# Altium integrated library NSC Audio.IntLib: 306 symbols (part 6 of 8)
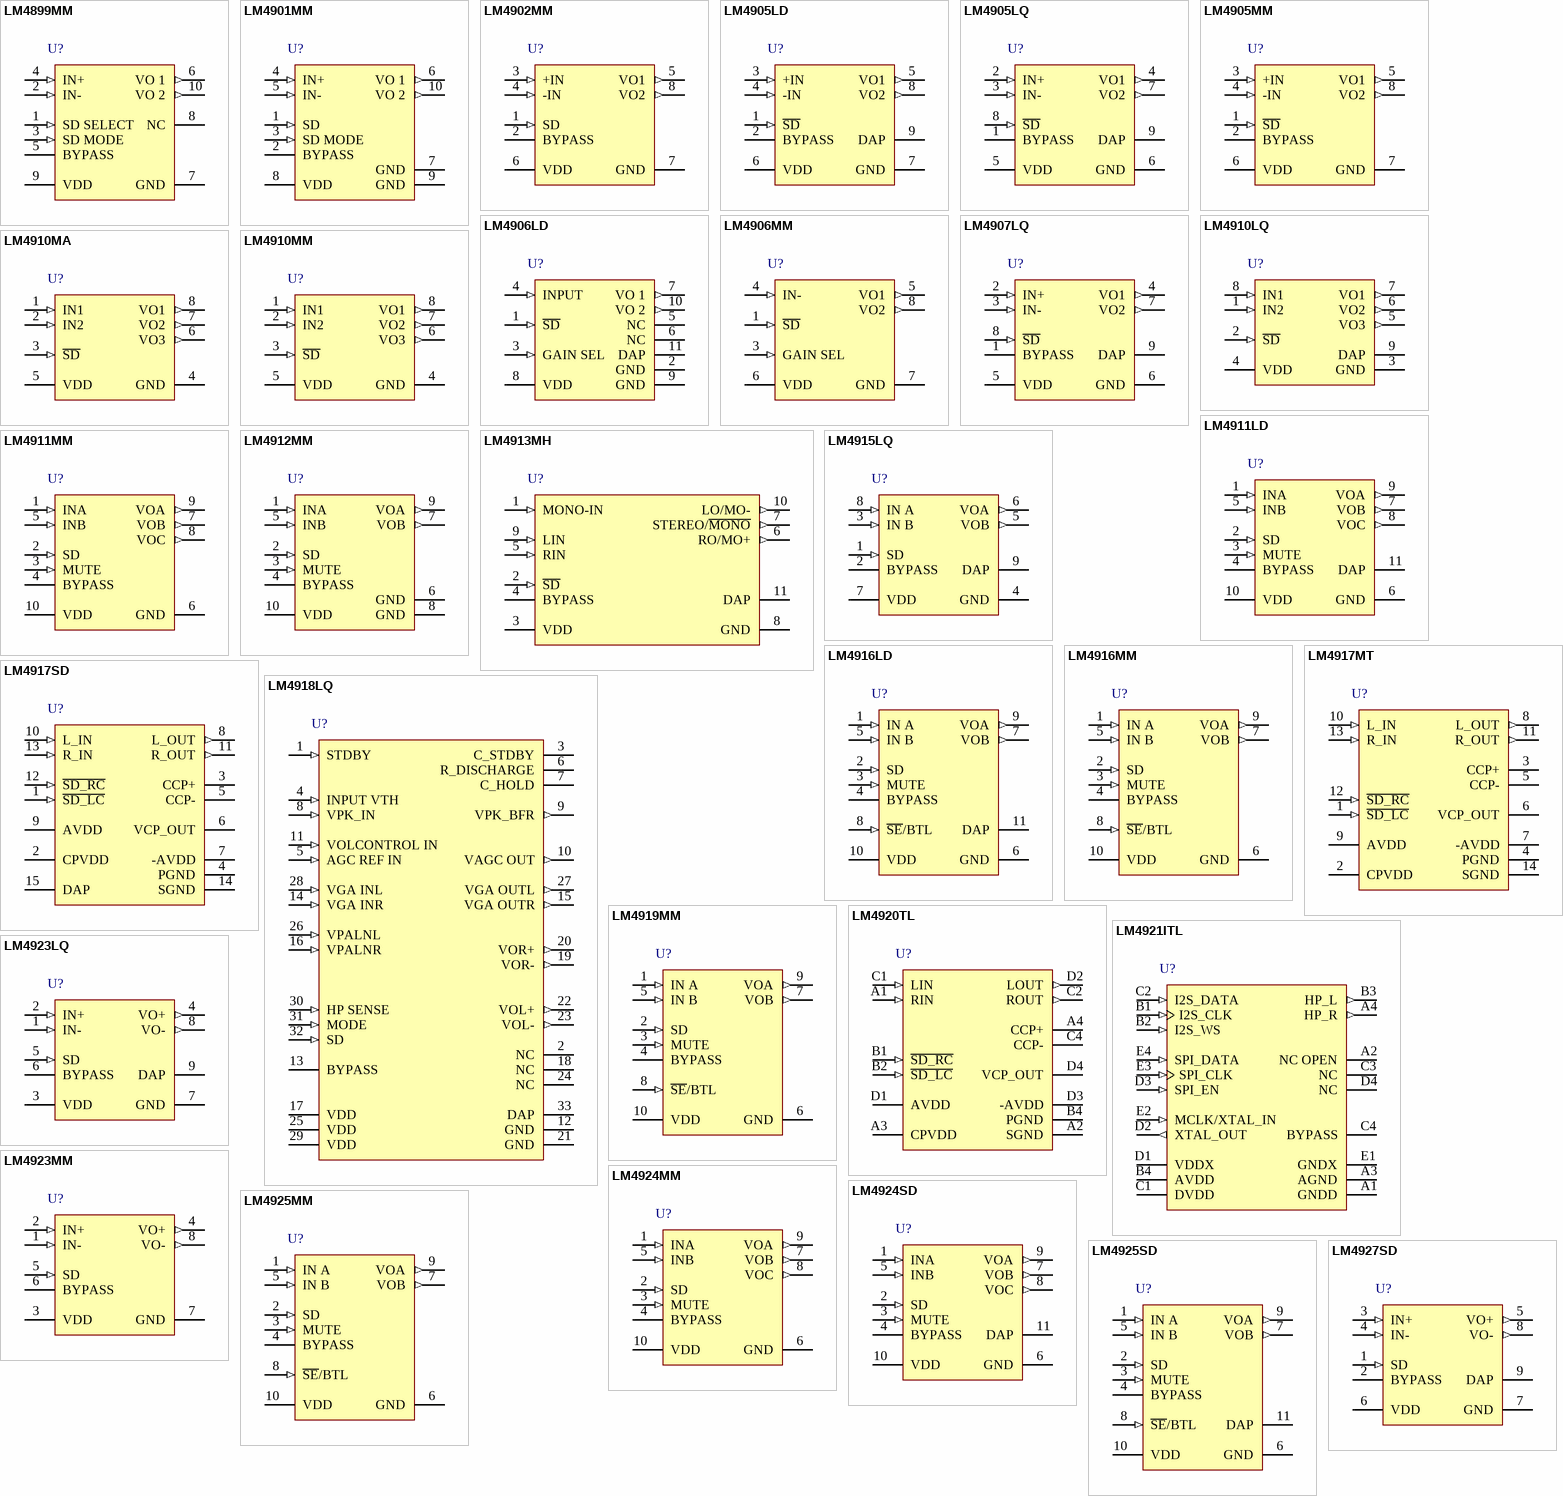
[diagram p17: symbols LM4899MM to LM4927SD]

## LM4924MM
designator U?
2 Cell Battery, 40mW Per Channel Output Capacitor-Less (OCL) Stereo Headphone Audio Amplifier; PartNumber: LM4924MM; Manufacturer: National Semiconductor; CompType: Audio IC; PackageTopMarking: ZXTT*GB7; PowerWise: N; Published: 4-Dec-2008; DatasheetVersion: Oct-2004; PackageVersion: revB, Jul-2003; PackageReference: MUB10A; Publisher: Altium Limited; PackageDescription: Mini-SO, Molded, .118 x .118 x .034in Body, 10 Lead, .0197in Pitch; RoHS: Y; PinCount: 10; DigiKeyPartNumber: LM4924MMCT-ND; Code_JEDEC: MO-187-BA; ComponentLink1Description: LM4924 Datasheet; ComponentLink1URL: http://www.national.com/ds/LM/LM4924.pdf; ComponentLink2Description: LM4924 Web Page; ComponentLink2URL: http://www.national.com/pf/LM/LM4924.html; ComponentLink3Description: MUB10A Package Page; ComponentLink3URL: http://www.national.com/packaging/folders/mub10a.html
footprint MUB10A_N (TSSOP, 10-Leads, Body 3x3mm, Pitch 0.5mm, IPC Medium Density)
footprint MUB10A_L (TSSOP, 10-Leads, Body 3x3mm, Pitch 0.5mm, IPC High Density)
footprint MUB10A_M (TSSOP, 10-Leads, Body 3x3mm, Pitch 0.5mm, IPC Low Density)
pins: 1 INA (in), 2 SD (in), 3 MUTE (in), 4 BYPASS, 5 INB (in), 6 GND (power), 7 VOB (out), 8 VOC (out), 9 VOA (out), 10 VDD (power)

## LM4924SD
designator U?
2 Cell Battery, 40mW Per Channel Output Capacitor-Less (OCL) Stereo Headphone Audio Amplifier; PartNumber: LM4924SD; Manufacturer: National Semiconductor; CompType: Audio IC; PackageTopMarking: ZXYTT*L4924; PowerWise: N; Published: 4-Dec-2008; DatasheetVersion: Oct-2004; PackageVersion: revA, Oct-2003; PackageReference: SDA10A; Publisher: Altium Limited; PackageDescription: LLP, Plastic, Dual, 3 x 3 x 0.8mm Body, 10 Lead, 0.5mm Pitch, No Pullback; RoHS: Y; PinCount: 10; DigiKeyPartNumber: LM4924SDCT-ND; ComponentLink1Description: LM4924 Datasheet; ComponentLink1URL: http://www.national.com/ds/LM/LM4924.pdf; ComponentLink2Description: LM4924 Web Page; ComponentLink2URL: http://www.national.com/pf/LM/LM4924.html; ComponentLink3Description: SDA10A Package Page; ComponentLink3URL: http://www.national.com/packaging/folders/sda10a.html
footprint SDA10A (SON, 10-Leads, Body 3x3 mm, Pitch 0.5mm, NSC Recommended)
pins: 1 INA (in), 2 SD (in), 3 MUTE (in), 4 BYPASS, 5 INB (in), 6 GND (power), 7 VOB (out), 8 VOC (out), 9 VOA (out), 10 VDD (power), 11 DAP (power)

## LM4925MM
designator U?
2 Cell, Single Ended Output, 40mW Stereo Headphone Audio Amplifier; PartNumber: LM4925MM; Manufacturer: National Semiconductor; CompType: Audio IC; PackageTopMarking: ZXTT*GB8; PowerWise: N; Published: 4-Dec-2008; DatasheetVersion: Feb-2005; PackageVersion: revB, Jul-2003; PackageReference: MUB10A; Publisher: Altium Limited; PackageDescription: Mini-SO, Molded, .118 x .118 x .034in Body, 10 Lead, .0197in Pitch; RoHS: Y; PinCount: 10; DigiKeyPartNumber: LM4925MMCT-ND; Code_JEDEC: MO-187-BA; ComponentLink1Description: LM4925 Datasheet; ComponentLink1URL: http://www.national.com/ds/LM/LM4925.pdf; ComponentLink2Description: LM4925 Web Page; ComponentLink2URL: http://www.national.com/pf/LM/LM4925.html; ComponentLink3Description: MUB10A Package Page; ComponentLink3URL: http://www.national.com/packaging/folders/mub10a.html
footprint MUB10A_N (TSSOP, 10-Leads, Body 3x3mm, Pitch 0.5mm, IPC Medium Density)
footprint MUB10A_L (TSSOP, 10-Leads, Body 3x3mm, Pitch 0.5mm, IPC High Density)
footprint MUB10A_M (TSSOP, 10-Leads, Body 3x3mm, Pitch 0.5mm, IPC Low Density)
pins: 1 IN A (in), 2 SD (in), 3 MUTE (in), 4 BYPASS, 5 IN B (in), 6 GND (power), 7 VOB (out), 8 ~{SE}/BTL (in), 9 VOA (out), 10 VDD (power)

## LM4925SD
designator U?
2 Cell, Single Ended Output, 40mW Stereo Headphone Audio Amplifier; PartNumber: LM4925SD; Manufacturer: National Semiconductor; CompType: Audio IC; PackageTopMarking: ZXYTT*L4925; PowerWise: N; Published: 4-Dec-2008; DatasheetVersion: Feb-2005; PackageVersion: revA, Oct-2003; PackageReference: SDA10A; Publisher: Altium Limited; PackageDescription: LLP, Plastic, Dual, 3 x 3 x 0.8mm Body, 10 Lead, 0.5mm Pitch, No Pullback; RoHS: Y; PinCount: 10; DigiKeyPartNumber: LM4925SDCT-ND; ComponentLink1Description: LM4925 Datasheet; ComponentLink1URL: http://www.national.com/ds/LM/LM4925.pdf; ComponentLink2Description: LM4925 Web Page; ComponentLink2URL: http://www.national.com/pf/LM/LM4925.html; ComponentLink3Description: SDA10A Package Page; ComponentLink3URL: http://www.national.com/packaging/folders/sda10a.html
footprint SDA10A (SON, 10-Leads, Body 3x3 mm, Pitch 0.5mm, NSC Recommended)
pins: 1 IN A (in), 2 SD (in), 3 MUTE (in), 4 BYPASS, 5 IN B (in), 6 GND (power), 7 VOB (out), 8 ~{SE}/BTL (in), 9 VOA (out), 10 VDD (power), 11 DAP (power)

## LM4927SD
designator U?
2.5 Watt Fully Differential Audio Power Amplifier With Shutdown; PartNumber: LM4927SD; Manufacturer: National Semiconductor; CompType: Audio IC; PackageTopMarking: ZXYTT*L4927; PowerWise: N; Published: 4-Dec-2008; DatasheetVersion: Apr-2006; PackageVersion: revA, Aug-2003; PackageReference: SDA08A; Publisher: Altium Limited; PackageDescription: LLP, Plastic, Dual, 3 x 3 x 0.8mm Body, 8 Lead, 0.5mm Pitch, No Pullback; RoHS: Y; PinCount: 8; DigiKeyPartNumber: LM4927SDCT-ND; ComponentLink1Description: LM4927 Datasheet; ComponentLink1URL: http://www.national.com/ds/LM/LM4927.pdf; ComponentLink2Description: LM4927 Web Page; ComponentLink2URL: http://www.national.com/pf/LM/LM4927.html; ComponentLink3Description: SDA08A Package Page; ComponentLink3URL: http://www.national.com/packaging/folders/sda08a.html
footprint SDA08A (SON, 8-Leads, Body 3x3mm, Pitch 0.5mm, NSC Recommended)
pins: 1 SD (in), 2 BYPASS, 3 IN+ (in), 4 IN- (in), 5 VO+ (out), 6 VDD (power), 7 GND (power), 8 VO- (out), 9 DAP (power)

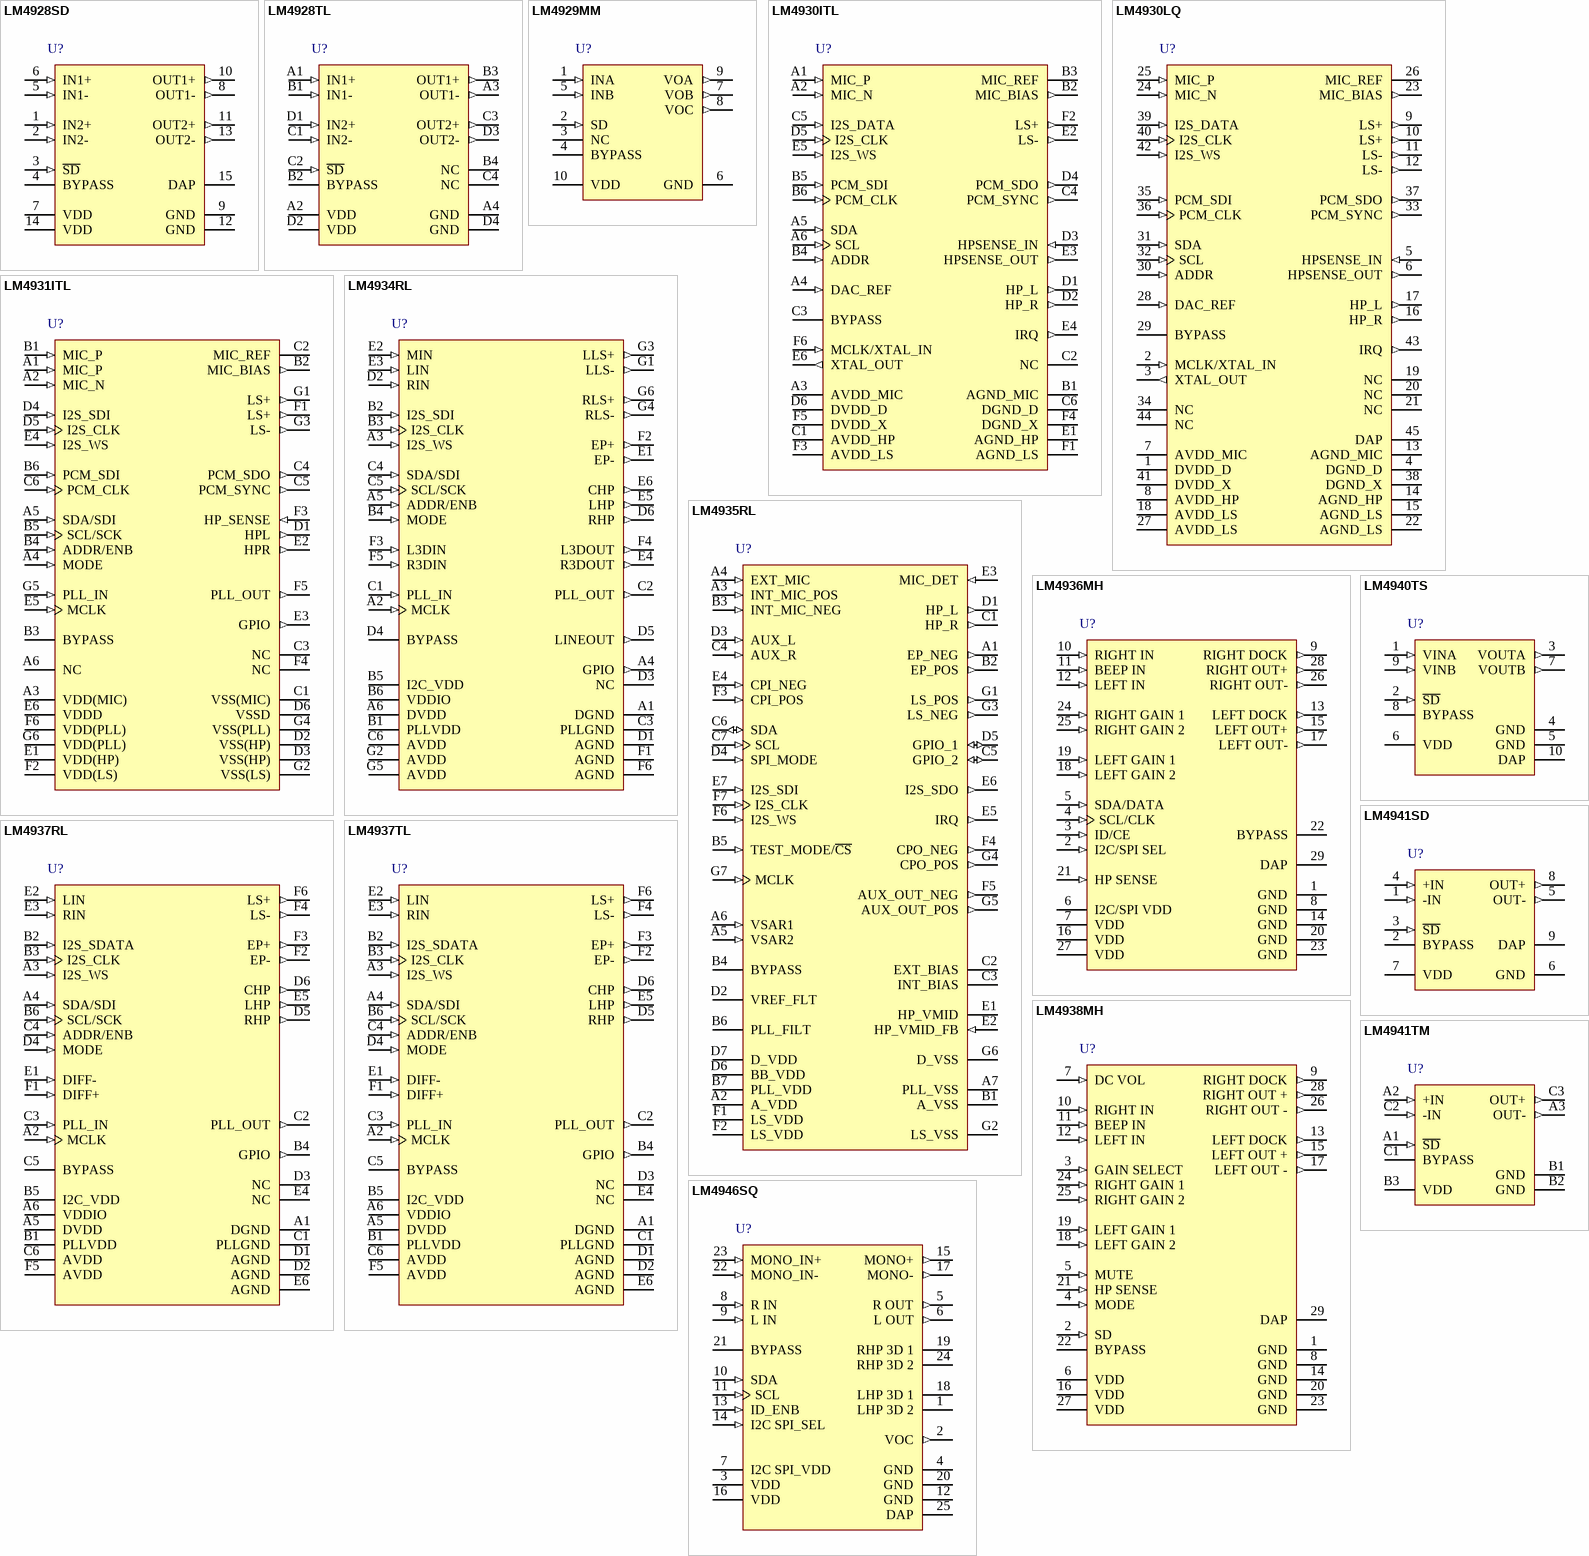
[diagram p8: symbols LM4928SD to LM4946SQ]

## LM4928SD
designator U?
1.2 Watt Stereo Fully Differential Audio Power Amplifier With RF Suppression and Shutdown Low; PartNumber: LM4928SD; Manufacturer: National Semiconductor; CompType: Audio IC; PackageTopMarking: ZXYTT*L4928; PowerWise: N; Published: 4-Dec-2008; DatasheetVersion: Feb-2006; PackageVersion: revA, Jun-2003; PackageReference: SDA14A; Publisher: Altium Limited; PackageDescription: LLP, Plastic, Dual, 4 x 3 x 0.8mm Body, 14 Lead, 0.5mm Pitch, No Pullback; RoHS: Y; PinCount: 14; DigiKeyPartNumber: LM4928SDCT-ND; ComponentLink1Description: LM4928 Datasheet; ComponentLink1URL: http://www.national.com/ds/LM/LM4928.pdf; ComponentLink2Description: LM4928 Web Page; ComponentLink2URL: http://www.national.com/pf/LM/LM4928.html; ComponentLink3Description: SDA14A Package Page; ComponentLink3URL: http://www.national.com/packaging/folders/sda14a.html
footprint SDA14A (SON, 14-Leads, Body 4x3mm, Pitch 0.5mm, NSC Recommended)
pins: 1 IN2+ (in), 2 IN2- (in), 3 ~{SD} (in), 4 BYPASS, 5 IN1- (in), 6 IN1+ (in), 7 VDD (power), 8 OUT1- (out), 9 GND (power), 10 OUT1+ (out), 11 OUT2+ (out), 12 GND (power), 13 OUT2- (out), 14 VDD (power), 15 DAP (power)

## LM4928TL
designator U?
1.2 Watt Stereo Fully Differential Audio Power Amplifier With RF Suppression and Shutdown Low; PartNumber: LM4928TL; Manufacturer: National Semiconductor; CompType: Audio IC; PackageTopMarking: XYTT*I GF9; PowerWise: N; Published: 4-Dec-2008; DatasheetVersion: Feb-2006; PackageVersion: revC, Jan-2004; PackageReference: TLA1611A; Publisher: Altium Limited; PackageDescription: Thin Micro SMD, 16 Bump (Large), 0.5mm Pitch; RoHS: Y; PinCount: 16; DigiKeyPartNumber: LM4928TLCT-ND; Code_JEDEC: MO-211-DF; ComponentLink1Description: LM4928 Datasheet; ComponentLink1URL: http://www.national.com/ds/LM/LM4928.pdf; ComponentLink2Description: LM4928 Web Page; ComponentLink2URL: http://www.national.com/pf/LM/LM4928.html; ComponentLink3Description: TLA1611A Package Page; ComponentLink3URL: http://www.national.com/packaging/folders/tla1611a.html
footprint TLA1611A (Micro SMD, 16-Leads, Body 1.97x1.97mm, Pitch 0.5mm, NSC Recommended)
pins: A1 IN1+ (in), A2 VDD (power), A3 OUT1- (out), A4 GND (power), B1 IN1- (in), B2 BYPASS, B3 OUT1+ (out), B4 NC, C1 IN2- (in), C2 ~{SD} (in), C3 OUT2+ (out), C4 NC, D1 IN2+ (in), D2 VDD (power), D3 OUT2- (out), D4 GND (power)

## LM4929MM
designator U?
LM4929 Stereo 40mW Low Noise Headphone Amplifier with OCL Output; PartNumber: LM4929MM; Manufacturer: National Semiconductor; CompType: Audio IC; PackageTopMarking: ZXTT*GB9; PowerWise: N; Published: 4-Dec-2008; DatasheetVersion: Dec-2004; PackageVersion: revB, Jul-2003; PackageReference: MUB10A; Publisher: Altium Limited; PackageDescription: Mini-SO, Molded, .118 x .118 x .034in Body, 10 Lead, .0197in Pitch; RoHS: Y; PinCount: 10; DigiKeyPartNumber: LM4929MMCT-ND; Code_JEDEC: MO-187-BA; ComponentLink1Description: LM4929 Datasheet; ComponentLink1URL: http://www.national.com/ds/LM/LM4929.pdf; ComponentLink2Description: LM4929 Web Page; ComponentLink2URL: http://www.national.com/pf/LM/LM4929.html; ComponentLink3Description: MUB10A Package Page; ComponentLink3URL: http://www.national.com/packaging/folders/mub10a.html
footprint MUB10A_N (TSSOP, 10-Leads, Body 3x3mm, Pitch 0.5mm, IPC Medium Density)
footprint MUB10A_L (TSSOP, 10-Leads, Body 3x3mm, Pitch 0.5mm, IPC High Density)
footprint MUB10A_M (TSSOP, 10-Leads, Body 3x3mm, Pitch 0.5mm, IPC Low Density)
pins: 1 INA (in), 2 SD (in), 3 NC, 4 BYPASS, 5 INB (in), 6 GND (power), 7 VOB (out), 8 VOC (out), 9 VOA (out), 10 VDD (power)

## LM4930ITL
designator U?
Audio Subsystem with Stereo Headphone & Mono Speaker Amplifiers; PartNumber: LM4930ITL; Manufacturer: National Semiconductor; CompType: Audio IC; PackageTopMarking: XVG*I B6; PowerWise: N; Published: 4-Dec-2008; DatasheetVersion: Sep-2004; PackageVersion: revC, Dec-2003; PackageReference: TLA36KRA; Publisher: Altium Limited; PackageDescription: Thin Micro SMD, 36 Bump (Large), 0.5mm Pitch; RoHS: Y; PinCount: 36; DigiKeyPartNumber: LM4930ITLCT-ND; Code_JEDEC: MO-211-DK; ComponentLink1Description: LM4930 Datasheet; ComponentLink1URL: http://www.national.com/ds/LM/LM4930.pdf; ComponentLink2Description: LM4930 Web Page; ComponentLink2URL: http://www.national.com/pf/LM/LM4930.html; ComponentLink3Description: TLA36KRA Package Page; ComponentLink3URL: http://www.national.com/packaging/folders/tla36kra.html
footprint TLA36KRA (Micro SMD, 36-Leads, Body 3.41x3.23mm, Pitch 0.5mm, NSC Recommended)
pins: A1 MIC_P (in), A2 MIC_N (in), A3 AVDD_MIC (power), A4 DAC_REF (in), A5 SDA (in), A6 SCL (in), B1 AGND_MIC (power), B2 MIC_BIAS (out), B3 MIC_REF, B4 ADDR (in), B5 PCM_SDI (in), B6 PCM_CLK (in), C1 AVDD_HP (power), C2 NC, C3 BYPASS, C4 PCM_SYNC (out), C5 I2S_DATA (in), C6 DGND_D (power), D1 HP_L (out), D2 HP_R (out), D3 HPSENSE_IN (in), D4 PCM_SDO (out), D5 I2S_CLK (in), D6 DVDD_D (power), E1 AGND_HP (power), E2 LS- (out), E3 HPSENSE_OUT (out), E4 IRQ (out), E5 I2S_WS (in), E6 XTAL_OUT (out), F1 AGND_LS (power), F2 LS+ (out), F3 AVDD_LS (power), F4 DGND_X (power), F5 DVDD_X (power), F6 MCLK/XTAL_IN (in)

## LM4930LQ
designator U?
Audio Subsystem with Stereo Headphone & Mono Speaker Amplifiers; PartNumber: LM4930LQ; Manufacturer: National Semiconductor; CompType: Audio IC; PackageTopMarking: NS*UZXYTT*L4930LQ; PowerWise: N; Published: 4-Dec-2008; DatasheetVersion: Sep-2004; PackageVersion: revB, Oct-2001; PackageReference: LQA44A; Publisher: Altium Limited; PackageDescription: LLP, Plastic, Quad, 7 x 7 x 0.75mm Body, 44 Lead, 0.5mm Pitch; RoHS: Y; PinCount: 44; DigiKeyPartNumber: LM4930LQCT-ND; ComponentLink1Description: LM4930 Datasheet; ComponentLink1URL: http://www.national.com/ds/LM/LM4930.pdf; ComponentLink2Description: LM4930 Web Page; ComponentLink2URL: http://www.national.com/pf/LM/LM4930.html; ComponentLink3Description: LQA44A Package Page; ComponentLink3URL: http://www.national.com/packaging/folders/lqa44a.html
footprint LQA44A (PQFN, 44-Leads, Body 7x7mm, Pitch 0.5mm, NSC Recommended)
pins: 1 DVDD_D (power), 2 MCLK/XTAL_IN (in), 3 XTAL_OUT (out), 4 DGND_D (power), 5 HPSENSE_IN (in), 6 HPSENSE_OUT (out), 7 AVDD_MIC (power), 8 AVDD_HP (power), 9 LS+ (out), 10 LS+ (out), 11 LS- (out), 12 LS- (out), 13 AGND_MIC (power), 14 AGND_HP (power), 15 AGND_LS (power), 16 HP_R (out), 17 HP_L (out), 18 AVDD_LS (power), 19 NC, 20 NC, 21 NC, 22 AGND_LS (power), 23 MIC_BIAS (out), 24 MIC_N (in), 25 MIC_P (in), 26 MIC_REF, 27 AVDD_LS (power), 28 DAC_REF (in), 29 BYPASS, 30 ADDR (in), 31 SDA (in), 32 SCL (in), 33 PCM_SYNC (out), 34 NC, 35 PCM_SDI (in), 36 PCM_CLK (in), 37 PCM_SDO (out), 38 DGND_X (power), 39 I2S_DATA (in), 40 I2S_CLK (in), 41 DVDD_X (power), 42 I2S_WS (in), 43 IRQ (out), 44 NC, 45 DAP (power)

## LM4931ITL
designator U?
Audio Subsystem with Mono High Efficiency Loudspeaker and Stereo Headphone Amplifiers; PartNumber: LM4931ITL; Manufacturer: National Semiconductor; CompType: Audio IC; PackageTopMarking: XYTT*I GC9; PowerWise: N; Published: 4-Dec-2008; DatasheetVersion: Jul-2006; PackageVersion: revC, Feb-2005; PackageReference: TLA42YVA; Publisher: Altium Limited; PackageDescription: Thin Micro SMD, 42 Bump (Large), 0.5mm Pitch; RoHS: Y; PinCount: 42; DigiKeyPartNumber: LM4931ITLCT-ND; ComponentLink1Description: LM4931 Datasheet; ComponentLink1URL: http://www.national.com/ds/LM/LM4931.pdf; ComponentLink2Description: LM4931 Web Page; ComponentLink2URL: http://www.national.com/pf/LM/LM4931.html; ComponentLink3Description: TLA42YVA Package Page; ComponentLink3URL: http://www.national.com/packaging/folders/tla42yva.html
footprint TLA42YVA (Micro SMD, 42-Leads, Body 3.93x3.51mm, Pitch 0.5mm, NSC Recommended)
pins: A1 MIC_P (in), A2 MIC_N (in), A3 VDD(MIC) (power), A4 MODE (in), A5 SDA/SDI (in), A6 NC, B1 MIC_P (in), B2 MIC_BIAS (out), B3 BYPASS, B4 ADDR/ENB (in), B5 SCL/SCK (in), B6 PCM_SDI (in), C1 VSS(MIC) (power), C2 MIC_REF, C3 NC, C4 PCM_SDO (out), C5 PCM_SYNC (out), C6 PCM_CLK (in), D1 HPL (out), D2 VSS(HP) (power), D3 VSS(HP) (power), D4 I2S_SDI (in), D5 I2S_CLK (in), D6 VSSD (power), E1 VDD(HP) (power), E2 HPR (out), E3 GPIO (out), E4 I2S_WS (in), E5 MCLK (in), E6 VDDD (power), F1 LS+ (out), F2 VDD(LS) (power), F3 HP_SENSE (in), F4 NC, F5 PLL_OUT (out), F6 VDD(PLL) (power), G1 LS+ (out), G2 VSS(LS) (power), G3 LS- (out), G4 VSS(PLL) (power), G5 PLL_IN (in), G6 VDD(PLL) (power)

## LM4934RL
designator U?
3D Audio Sub-System with Stereo Speaker, OCL/SE Stereo Headphone, Earpiece and Mono Line Level Outputs; PartNumber: LM4934RL; Manufacturer: National Semiconductor; CompType: Audio IC; PackageTopMarking: XYTT*I GG9; PowerWise: N; Published: 4-Dec-2008; DatasheetVersion: Feb-2006; PackageVersion: revB, Dec-2005; PackageReference: RLA42MPA; Publisher: Altium Limited; PackageDescription: Micro SMDxt, 42 Bump (Large), 0.5mm Pitch; RoHS: Y; PinCount: 42; DigiKeyPartNumber: LM4934RLCT-ND; ComponentLink1Description: LM4934 Datasheet; ComponentLink1URL: http://www.national.com/ds/LM/LM4934.pdf; ComponentLink2Description: LM4934 Web Page; ComponentLink2URL: http://www.national.com/pf/LM/LM4934.html; ComponentLink3Description: RLA42MPA Package Page; ComponentLink3URL: http://www.national.com/packaging/folders/rla42mpa.html
footprint RLA42MPA (Micro SMD, 42-Leads, Body 3.8x3.25mm, Pitch 0.5mm, NSC Recommended)
pins: A1 DGND (power), A2 MCLK (in), A3 I2S_WS (in), A4 GPIO (out), A5 ADDR/ENB (in), A6 DVDD (power), B1 PLLVDD (power), B2 I2S_SDI (in), B3 I2S_CLK (in), B4 MODE (in), B5 I2C_VDD (power), B6 VDDIO (power), C1 PLL_IN (in), C2 PLL_OUT (out), C3 PLLGND (power), C4 SDA/SDI (in), C5 SCL/SCK (in), C6 AVDD (power), D1 AGND (power), D2 RIN (in), D3 NC, D4 BYPASS, D5 LINEOUT (out), D6 RHP (out), E1 EP- (out), E2 MIN (in), E3 LIN (in), E4 R3DOUT (out), E5 LHP (out), E6 CHP (out), F1 AGND (power), F2 EP+ (out), F3 L3DIN (in), F4 L3DOUT (out), F5 R3DIN (in), F6 AGND (power), G1 LLS- (out), G2 AVDD (power), G3 LLS+ (out), G4 RLS- (out), G5 AVDD (power), G6 RLS+ (out)

## LM4935RL
designator U?
Audio Sub-System with Dual-Mode Stereo Headphone &amp; Mono High Efficiency Loudspeaker Amplifiers and Multi-Purpose ADC; PartNumber: LM4935RL; Manufacturer: National Semiconductor; CompType: Audio IC; PackageTopMarking: XYTT*I GG7; PowerWise: N; Published: 4-Dec-2008; DatasheetVersion: Jan-2006; PackageVersion: revB, Dec-2005; PackageReference: RLA49UUA; Publisher: Altium Limited; PackageDescription: Micro SMDxt, 49 Bump (Large), 0.5mm Pitch; RoHS: Y; PinCount: 49; DigiKeyPartNumber: LM4935RLCT-ND; ComponentLink1Description: LM4935 Datasheet; ComponentLink1URL: http://www.national.com/ds/LM/LM4935.pdf; ComponentLink2Description: LM4935 Web Page; ComponentLink2URL: http://www.national.com/pf/LM/LM4935.html; ComponentLink3Description: RLA49UUA Package Page; ComponentLink3URL: http://www.national.com/packaging/folders/rla49uua.html
footprint RLA49UUA (Micro SMD, 49-Leads, Body 3.93x3.93mm, Pitch 0.5mm, NSC Recommended)
pins: A1 EP_NEG (out), A2 A_VDD (power), A3 INT_MIC_POS (in), A4 EXT_MIC (in), A5 VSAR2 (in), A6 VSAR1 (in), A7 PLL_VSS (power), B1 A_VSS (power), B2 EP_POS (out), B3 INT_MIC_NEG (in), B4 BYPASS, B5 TEST_MODE/~{CS} (in), B6 PLL_FILT, B7 PLL_VDD (power), C1 HP_R (out), C2 EXT_BIAS (power), C3 INT_BIAS (power), C4 AUX_R (in), C5 GPIO_2 (io), C6 SDA (io), C7 SCL (in), D1 HP_L (out), D2 VREF_FLT, D3 AUX_L (in), D4 SPI_MODE (in), D5 GPIO_1 (io), D6 BB_VDD (power), D7 D_VDD (power), E1 HP_VMID (power), E2 HP_VMID_FB (in), E3 MIC_DET (in), E4 CPI_NEG (in), E5 IRQ (out), E6 I2S_SDO (out), E7 I2S_SDI (in), F1 LS_VDD (power), F2 LS_VDD (power), F3 CPI_POS (in), F4 CPO_NEG (out), F5 AUX_OUT_NEG (out), F6 I2S_WS (in), F7 I2S_CLK (in), G1 LS_POS (out), G2 LS_VSS (power), G3 LS_NEG (out), G4 CPO_POS (out), G5 AUX_OUT_POS (out), G6 D_VSS (power), G7 MCLK (in)

## LM4936MH
designator U?
Stereo 2W Audio Power Amplifiers with Volume Control and Selectable Control Interface (SPI or I2C); PartNumber: LM4936MH; Manufacturer: National Semiconductor; CompType: Audio IC; PackageTopMarking: NSUZXYTT*LM4936MH; PowerWise: N; Published: 4-Dec-2008; DatasheetVersion: Apr-2005; PackageVersion: revD, Oct-2003; PackageReference: MXA28A; Publisher: Altium Limited; PackageDescription: Molded TSSOP, Jedec, 9.7 x 4.4 x 0.9mm Body, 28 Lead, 0.65mm Pitch, Exposed Pad; RoHS: Y; PinCount: 28; DigiKeyPartNumber: LM4936MH-ND; Code_JEDEC: MO-153-AET; ComponentLink1Description: LM4936 Datasheet; ComponentLink1URL: http://www.national.com/ds/LM/LM4936.pdf; ComponentLink2Description: LM4936 Web Page; ComponentLink2URL: http://www.national.com/pf/LM/LM4936.html; ComponentLink3Description: MXA28A Package Page; ComponentLink3URL: http://www.national.com/packaging/folders/mxa28a.html
footprint MXA28A_N (TSOP, 28-Leads, Body 9.7x4.4mm, Pitch 0.65mm, Exposed Pad, IPC Medium Density)
footprint MXA28A_L (TSOP, 28-Leads, Body 9.7x4.4mm, Pitch 0.65mm, Exposed Pad, IPC High Density)
footprint MXA28A_M (TSOP, 28-Leads, Body 9.7x4.4mm, Pitch 0.65mm, Exposed Pad, IPC Low Density)
pins: 1 GND (power), 2 I2C/SPI SEL (in), 3 ID/CE (in), 4 SCL/CLK (in), 5 SDA/DATA (in), 6 I2C/SPI VDD (power), 7 VDD (power), 8 GND (power), 9 RIGHT DOCK (out), 10 RIGHT IN (in), 11 BEEP IN (in), 12 LEFT IN (in), 13 LEFT DOCK (out), 14 GND (power), 15 LEFT OUT+ (out), 16 VDD (power), 17 LEFT OUT- (out), 18 LEFT GAIN 2 (in), 19 LEFT GAIN 1 (in), 20 GND (power), 21 HP SENSE (in), 22 BYPASS, 23 GND (power), 24 RIGHT GAIN 1 (in), 25 RIGHT GAIN 2 (in), 26 RIGHT OUT- (out), 27 VDD (power), 28 RIGHT OUT+ (out), 29 DAP (power)

## LM4937RL
designator U?
Audio Sub-System with OCL Stereo Headphone Output and RF Suppression; PartNumber: LM4937RL; Manufacturer: National Semiconductor; CompType: Audio IC; PackageTopMarking: XYTT*I GJ3; PowerWise: N; Published: 4-Dec-2008; DatasheetVersion: Nov-2007; PackageVersion: revA, 2007; PackageReference: RLA36LVA; Publisher: Altium Limited; PackageDescription: Micro SMDxt, 36 Bump (Large), 0.5mm Pitch; RoHS: Y; PinCount: 36; ComponentLink1Description: LM4937 Datasheet; ComponentLink1URL: http://www.national.com/ds/LM/LM4937.pdf; ComponentLink2Description: LM4937 Web Page; ComponentLink2URL: http://www.national.com/pf/LM/LM4937.html; ComponentLink3Description: RLA36LVA Package Page; ComponentLink3URL: http://www.national.com/packaging/folders/rla36lva.html
footprint RLA36LVA (Micro SMD, 36-Leads, Body 3.51x3.26mm, Pitch 0.5mm, NSC Recommended)
pins: A1 DGND (power), A2 MCLK (in), A3 I2S_WS (in), A4 SDA/SDI (in), A5 DVDD (power), A6 VDDIO (power), B1 PLLVDD (power), B2 I2S_SDATA (in), B3 I2S_CLK (in), B4 GPIO (out), B5 I2C_VDD (power), B6 SCL/SCK (in), C1 PLLGND (power), C2 PLL_OUT (out), C3 PLL_IN (in), C4 ADDR/ENB (in), C5 BYPASS, C6 AVDD (power), D1 AGND (power), D2 AGND (power), D3 NC, D4 MODE (in), D5 RHP (out), D6 CHP (out), E1 DIFF- (in), E2 LIN (in), E3 RIN (in), E4 NC, E5 LHP (out), E6 AGND (power), F1 DIFF+ (in), F2 EP- (out), F3 EP+ (out), F4 LS- (out), F5 AVDD (power), F6 LS+ (out)

## LM4937TL
designator U?
Audio Sub-System with OCL Stereo Headphone Output and RF Suppression; PartNumber: LM4937TL; Manufacturer: National Semiconductor; CompType: Audio IC; PackageTopMarking: XYTT*I GI1; PowerWise: N; Published: 4-Dec-2008; DatasheetVersion: Nov-2007; PackageVersion: revC, Dec-2003; PackageReference: TLA36LVA; Publisher: Altium Limited; PackageDescription: Thin Micro SMD, 36 Bump (Large), 0.5mm Pitch; RoHS: Y; PinCount: 36; DigiKeyPartNumber: LM4937TLCT-ND; Code_JEDEC: MO-211-DK; ComponentLink1Description: LM4937 Datasheet; ComponentLink1URL: http://www.national.com/ds/LM/LM4937.pdf; ComponentLink2Description: LM4937 Web Page; ComponentLink2URL: http://www.national.com/pf/LM/LM4937.html; ComponentLink3Description: TLA36LVA Package Page; ComponentLink3URL: http://www.national.com/packaging/folders/tla36lva.html
footprint TLA36LVA (Micro SMD, 36-Leads, Body 3.51x3.26mm, Pitch 0.5mm, NSC Recommended)
pins: A1 DGND (power), A2 MCLK (in), A3 I2S_WS (in), A4 SDA/SDI (in), A5 DVDD (power), A6 VDDIO (power), B1 PLLVDD (power), B2 I2S_SDATA (in), B3 I2S_CLK (in), B4 GPIO (out), B5 I2C_VDD (power), B6 SCL/SCK (in), C1 PLLGND (power), C2 PLL_OUT (out), C3 PLL_IN (in), C4 ADDR/ENB (in), C5 BYPASS, C6 AVDD (power), D1 AGND (power), D2 AGND (power), D3 NC, D4 MODE (in), D5 RHP (out), D6 CHP (out), E1 DIFF- (in), E2 LIN (in), E3 RIN (in), E4 NC, E5 LHP (out), E6 AGND (power), F1 DIFF+ (in), F2 EP- (out), F3 EP+ (out), F4 LS- (out), F5 AVDD (power), F6 LS+ (out)

## LM4938MH
designator U?
Stereo 2W Audio Power Amplifiers with DC Volume Control and Selectable Gain; PartNumber: LM4938MH; Manufacturer: National Semiconductor; CompType: Audio IC; PackageTopMarking: NSUZXYTT*LM4938MH; PowerWise: N; Published: 4-Dec-2008; DatasheetVersion: Jul-2005; PackageVersion: revD, Oct-2003; PackageReference: MXA28A; Publisher: Altium Limited; PackageDescription: Molded TSSOP, Jedec, 9.7 x 4.4 x 0.9mm Body, 28 Lead, 0.65mm Pitch, Exposed Pad; RoHS: Y; PinCount: 28; DigiKeyPartNumber: LM4938MH-ND; Code_JEDEC: MO-153-AET; ComponentLink1Description: LM4938 Datasheet; ComponentLink1URL: http://www.national.com/ds/LM/LM4938.pdf; ComponentLink2Description: LM4938 Web Page; ComponentLink2URL: http://www.national.com/pf/LM/LM4938.html; ComponentLink3Description: MXA28A Package Page; ComponentLink3URL: http://www.national.com/packaging/folders/mxa28a.html
footprint MXA28A_N (TSOP, 28-Leads, Body 9.7x4.4mm, Pitch 0.65mm, Exposed Pad, IPC Medium Density)
footprint MXA28A_L (TSOP, 28-Leads, Body 9.7x4.4mm, Pitch 0.65mm, Exposed Pad, IPC High Density)
footprint MXA28A_M (TSOP, 28-Leads, Body 9.7x4.4mm, Pitch 0.65mm, Exposed Pad, IPC Low Density)
pins: 1 GND (power), 2 SD (in), 3 GAIN SELECT (in), 4 MODE (in), 5 MUTE (in), 6 VDD (power), 7 DC VOL (in), 8 GND (power), 9 RIGHT DOCK (out), 10 RIGHT IN (in), 11 BEEP IN (in), 12 LEFT IN (in), 13 LEFT DOCK (out), 14 GND (power), 15 LEFT OUT + (out), 16 VDD (power), 17 LEFT OUT - (out), 18 LEFT GAIN 2 (in), 19 LEFT GAIN 1 (in), 20 GND (power), 21 HP SENSE (in), 22 BYPASS, 23 GND (power), 24 RIGHT GAIN 1 (in), 25 RIGHT GAIN 2 (in), 26 RIGHT OUT - (out), 27 VDD (power), 28 RIGHT OUT + (out), 29 DAP (power)

## LM4940TS
designator U?
6W Stereo Audio Power Amplifier; PartNumber: LM4940TS; Manufacturer: National Semiconductor; CompType: Audio IC; PackageTopMarking: NSUZXYTTE#*L4940TS; PowerWise: N; Published: 4-Dec-2008; DatasheetVersion: Apr-2005; PackageVersion: revB, Dec-2004; PackageReference: TS9A; Publisher: Altium Limited; PackageDescription: TO-263, Molded, 9 Lead, Surface Mount; RoHS: Y; PinCount: 9; DigiKeyPartNumber: LM4940TS-ND; ComponentLink1Description: LM4940 Datasheet; ComponentLink1URL: http://www.national.com/ds/LM/LM4940.pdf; ComponentLink2Description: LM4940 Web Page; ComponentLink2URL: http://www.national.com/pf/LM/LM4940.html; ComponentLink3Description: TS9A Package Page; ComponentLink3URL: http://www.national.com/packaging/folders/ts9a.html
footprint TS9A_N (D2-PAK, 10-Leads, Body 8.7x10.2mm, Pitch 0.97mm, Lead Span 14.1mm, IPC Medium Density)
footprint TS9A_L (D2-PAK, 10-Leads, Body 8.7x10.2mm, Pitch 0.97mm, Lead Span 14.1mm, IPC High Density)
footprint TS9A_M (D2-PAK, 10-Leads, Body 8.7x10.2mm, Pitch 0.97mm, Lead Span 14.1mm, IPC Low Density)
pins: 1 VINA (in), 2 ~{SD} (in), 3 VOUTA (out), 4 GND (power), 5 GND (power), 6 VDD (power), 7 VOUTB (out), 8 BYPASS, 9 VINB (in), 10 DAP (power)

## LM4941SD
designator U?
1.25 Watt Fully Differential Audio Power Amplifier With RF Suppression and Shutdown; PartNumber: LM4941SD; Manufacturer: National Semiconductor; CompType: Audio IC; PackageTopMarking: XYTT*4941; PowerWise: N; Published: 4-Dec-2008; DatasheetVersion: Mar-2007; PackageVersion: revA, Jan-2004; PackageReference: SDA08C; Publisher: Altium Limited; PackageDescription: LLP, Plastic, Dual, 2.5 x 3.0 x 0.8mm Body, 8 Lead, 0.5mm Pitch, No Pullback; RoHS: Y; PinCount: 8; DigiKeyPartNumber: LM4941SDCT-ND; ComponentLink1Description: LM4941 Datasheet; ComponentLink1URL: http://www.national.com/ds/LM/LM4941.pdf; ComponentLink2Description: LM4941 Web Page; ComponentLink2URL: http://www.national.com/pf/LM/LM4941.html; ComponentLink3Description: SDA08C Package Page; ComponentLink3URL: http://www.national.com/packaging/folders/sda08c.html
footprint SDA08C (SON, 8-Leads, Body 2.5x3mm, Pitch 0.5mm, NSC Recommended)
pins: 1 -IN (in), 2 BYPASS, 3 ~{SD} (in), 4 +IN (in), 5 OUT- (out), 6 GND (power), 7 VDD (power), 8 OUT+ (out), 9 DAP (power)

## LM4941TM
designator U?
1.25 Watt Fully Differential Audio Power Amplifier With RF Suppression and Shutdown; PartNumber: LM4941TM; Manufacturer: National Semiconductor; CompType: Audio IC; PackageTopMarking: XVG*I H6; PowerWise: Y; Published: 4-Dec-2008; DatasheetVersion: Mar-2007; PackageVersion: revA, May-2005; PackageReference: TMD09AAA; Publisher: Altium Limited; PackageDescription: Thin Micro SMD, 9 Bump, 0.4mm Pitch; RoHS: Y; PinCount: 9; DigiKeyPartNumber: LM4941TMCT-ND; ComponentLink1Description: LM4941 Datasheet; ComponentLink1URL: http://www.national.com/ds/LM/LM4941.pdf; ComponentLink2Description: LM4941 Web Page; ComponentLink2URL: http://www.national.com/pf/LM/LM4941.html; ComponentLink3Description: TMD09AAA Package Page; ComponentLink3URL: http://www.national.com/packaging/folders/tmd09aaa.html
footprint TMD09AAA (Micro SMD, 9-Leads, Body 1.22x1.22mm, Pitch 0.4mm, NSC Recommended)
pins: A1 ~{SD} (in), A2 +IN (in), A3 OUT- (out), B1 GND (power), B2 GND (power), B3 VDD (power), C1 BYPASS, C2 -IN (in), C3 OUT+ (out)

## LM4946SQ
designator U?
Output Capacitor-Less Audio Subsystem with Programmable National 3D; PartNumber: LM4946SQ; Manufacturer: National Semiconductor; CompType: Audio IC; PackageTopMarking: NS*UZXYTT*L4946SQ; PowerWise: N; Published: 4-Dec-2008; DatasheetVersion: Aug-2007; PackageVersion: revB, Aug-2003; PackageReference: SQA24A; Publisher: Altium Limited; PackageDescription: LLP, Plastic, Quad, 4 x 4 x 0.8mm Body, 24 Lead, 0.5mm Pitch, No Pullback; RoHS: Y; PinCount: 24; DigiKeyPartNumber: LM4946SQCT-ND; Code_JEDEC: MO-220-WGGD-6; ComponentLink1Description: LM4946 Datasheet; ComponentLink1URL: http://www.national.com/ds/LM/LM4946.pdf; ComponentLink2Description: LM4946 Web Page; ComponentLink2URL: http://www.national.com/pf/LM/LM4946.html; ComponentLink3Description: SQA24A Package Page; ComponentLink3URL: http://www.national.com/packaging/folders/sqa24a.html
footprint SQA24A (QFN, 24-Leads, Body 4x4mm, Pitch 0.5mm, NSC Recommended)
pins: 1 LHP 3D 2, 2 VOC (out), 3 VDD (power), 4 GND (power), 5 R OUT (out), 6 L OUT (out), 7 I2C SPI_VDD (power), 8 R IN (in), 9 L IN (in), 10 SDA (in), 11 SCL (in), 12 GND (power), 13 ID_ENB (in), 14 I2C SPI_SEL (in), 15 MONO+ (out), 16 VDD (power), 17 MONO- (out), 18 LHP 3D 1, 19 RHP 3D 1, 20 GND (power), 21 BYPASS, 22 MONO_IN- (in), 23 MONO_IN+ (in), 24 RHP 3D 2, 25 DAP (power)

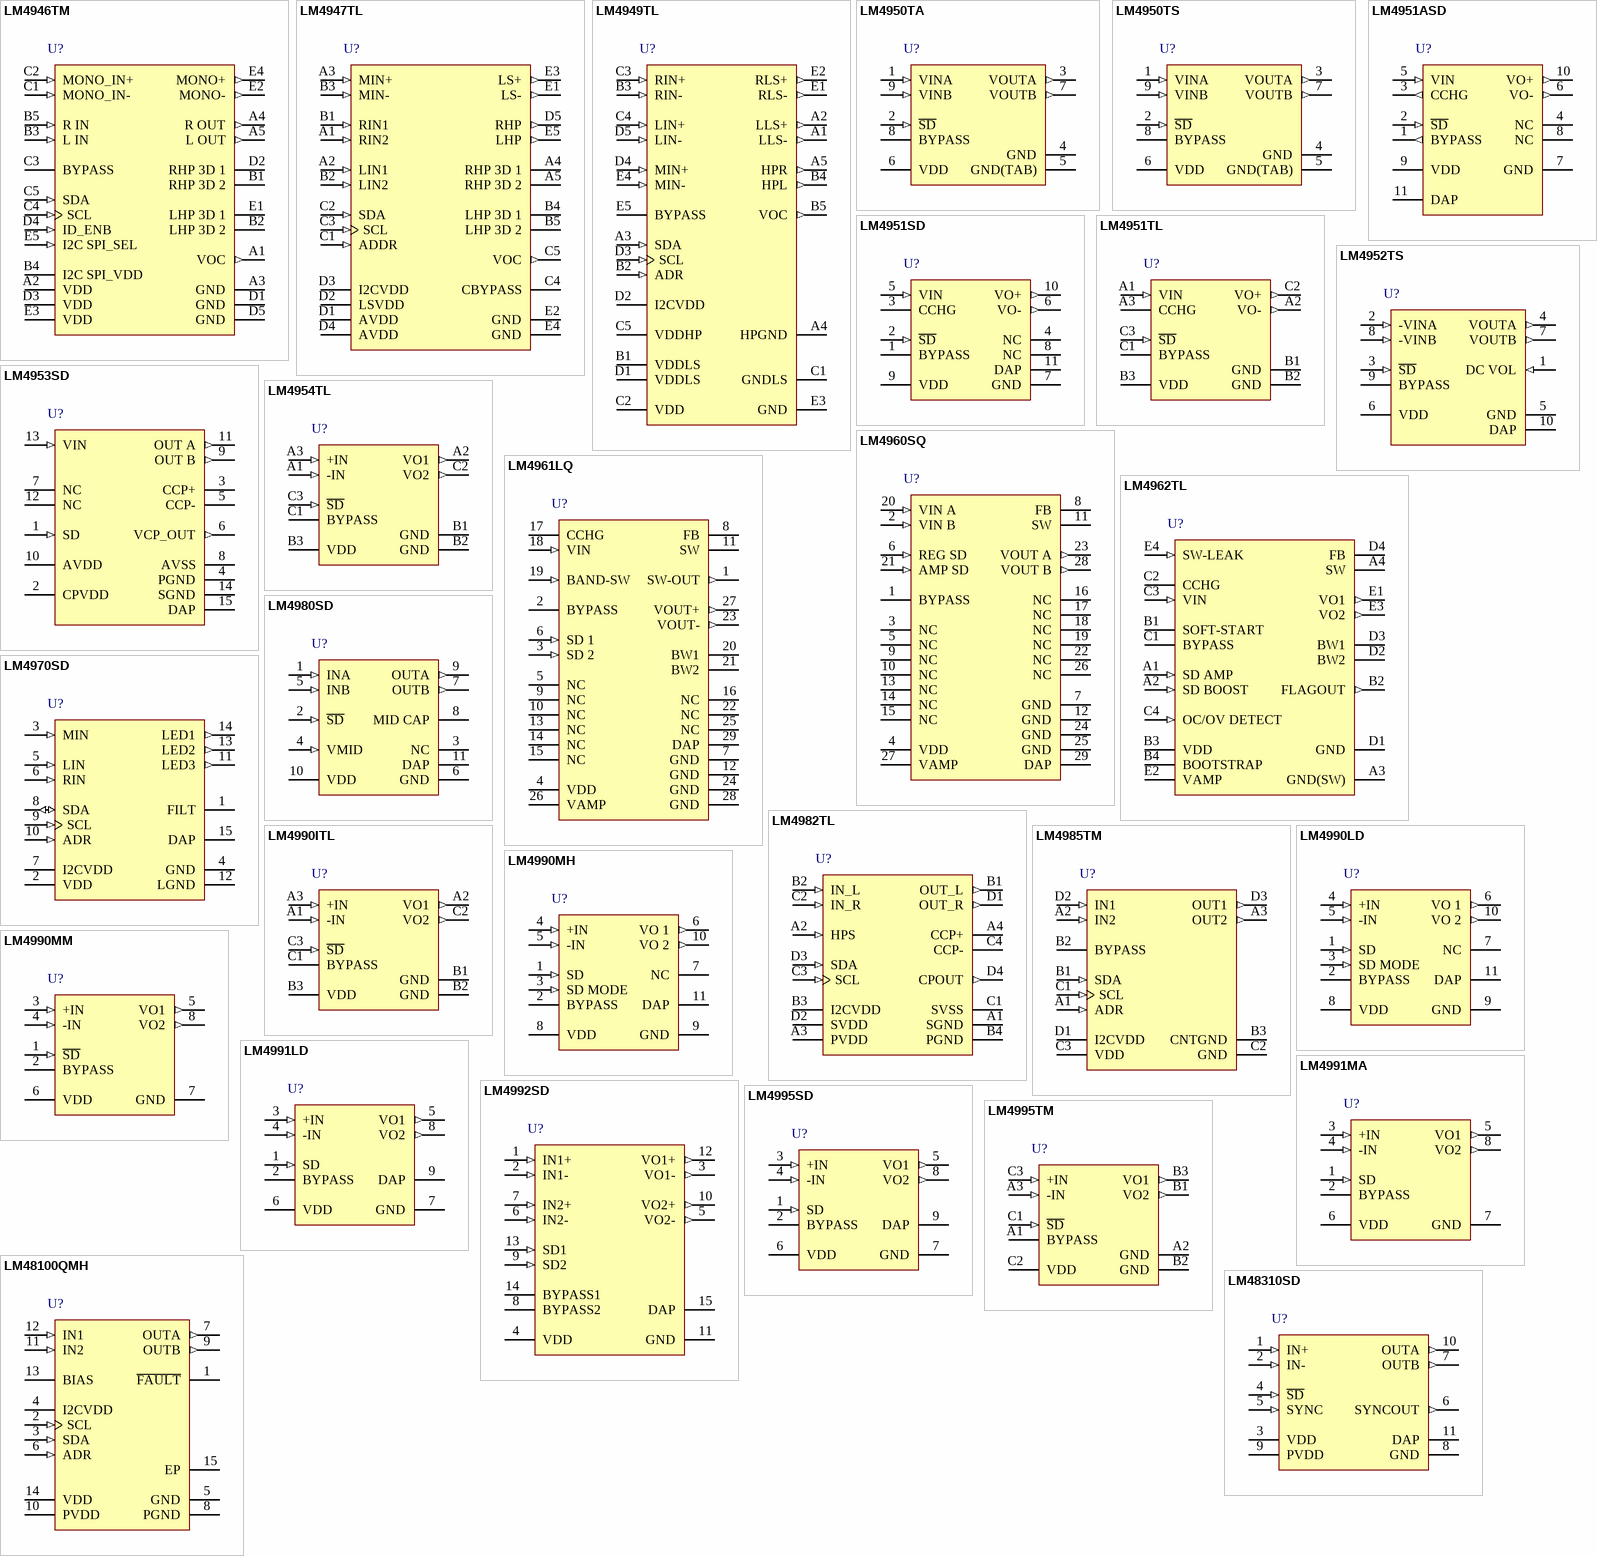
[diagram p9: symbols LM4946TM to LM48310SD]

## LM4946TM
designator U?
Output Capacitor-Less Audio Subsystem with Programmable National 3D; PartNumber: LM4946TM; Manufacturer: National Semiconductor; CompType: Audio IC; PackageTopMarking: XYTT*I GI9; PowerWise: N; Published: 4-Dec-2008; DatasheetVersion: Aug-2007; PackageVersion: revC, 2007; PackageReference: TMD25ABA; Publisher: Altium Limited; PackageDescription: Thin Micro SMD, 25 Bump, 0.4mm Pitch; RoHS: Y; PinCount: 25; DigiKeyPartNumber: LM4946TMCT-ND; ComponentLink1Description: LM4946 Datasheet; ComponentLink1URL: http://www.national.com/ds/LM/LM4946.pdf; ComponentLink2Description: LM4946 Web Page; ComponentLink2URL: http://www.national.com/pf/LM/LM4946.html; ComponentLink3Description: TMD25ABA Package Page; ComponentLink3URL: http://www.national.com/packaging/folders/tmd25aba.html
footprint TMD25ABA (Micro SMD, 25-Leads, Body 2.05x2.02mm, Pitch 0.4mm, NSC Recommended)
pins: A1 VOC (out), A2 VDD (power), A3 GND (power), A4 R OUT (out), A5 L OUT (out), B1 RHP 3D 2, B2 LHP 3D 2, B3 L IN (in), B4 I2C SPI_VDD (power), B5 R IN (in), C1 MONO_IN- (in), C2 MONO_IN+ (in), C3 BYPASS, C4 SCL (in), C5 SDA (in), D1 GND (power), D2 RHP 3D 1, D3 VDD (power), D4 ID_ENB (in), D5 GND (power), E1 LHP 3D 1, E2 MONO- (out), E3 VDD (power), E4 MONO+ (out), E5 I2C SPI_SEL (in)

## LM4947TL
designator U?
Mono Class D and Stereo Audio Sub-System with OCL Headphone Amplifier and National 3D; PartNumber: LM4947TL; Manufacturer: National Semiconductor; CompType: Audio IC; PackageTopMarking: XYTT*I GH1; PowerWise: N; Published: 4-Dec-2008; DatasheetVersion: Nov-2007; PackageVersion: revD, Dec-2003; PackageReference: TLA25BBA; Publisher: Altium Limited; PackageDescription: Thin Micro SMD, 25 Bump (Large), 0.5mm Pitch; RoHS: Y; PinCount: 25; DigiKeyPartNumber: LM4947TLCT-ND; Code_JEDEC: MO-211-DH; ComponentLink1Description: LM4947 Datasheet; ComponentLink1URL: http://www.national.com/ds/LM/LM4947.pdf; ComponentLink2Description: LM4947 Web Page; ComponentLink2URL: http://www.national.com/pf/LM/LM4947.html; ComponentLink3Description: TLA25BBA Package Page; ComponentLink3URL: http://www.national.com/packaging/folders/tla25bba.html
footprint TLA25BBA (Micro SMD, 25-Leads, Body 2.52x2.52mm, Pitch 0.5mm, NSC Recommended)
pins: A1 RIN2 (in), A2 LIN1 (in), A3 MIN+ (in), A4 RHP 3D 1, A5 RHP 3D 2, B1 RIN1 (in), B2 LIN2 (in), B3 MIN- (in), B4 LHP 3D 1, B5 LHP 3D 2, C1 ADDR (in), C2 SDA (in), C3 SCL (in), C4 CBYPASS, C5 VOC (out), D1 AVDD (power), D2 LSVDD (power), D3 I2CVDD (power), D4 AVDD (power), D5 RHP (out), E1 LS- (out), E2 GND (power), E3 LS+ (out), E4 GND (power), E5 LHP (out)

## LM4949TL
designator U?
Stereo Class D Audio Subsystem with OCL Headphone Amplifier; PartNumber: LM4949TL; Manufacturer: National Semiconductor; CompType: Audio IC; PackageTopMarking: XYTT*I GH3; PowerWise: N; Published: 4-Dec-2008; DatasheetVersion: Jan-2007; PackageVersion: revD, Oct-2003; PackageReference: TLA25JJA; Publisher: Altium Limited; PackageDescription: 25-Ball Thin Micro SMD, 2.69 x 2.69 x 0.6mm Body, 0.5 mm Pitch; RoHS: Y; PinCount: 25; DigiKeyPartNumber: LM4949TLCT-ND; Code_JEDEC: MO-211-DH; ComponentLink1Description: LM4949 Datasheet; ComponentLink1URL: http://www.national.com/ds/LM/LM4949.pdf; ComponentLink2Description: LM4949 Web Page; ComponentLink2URL: http://www.national.com/pf/LM/LM4949.html; ComponentLink3Description: TLA25JJA Package Page; ComponentLink3URL: http://www.national.com/packaging/folders/tla25jja.html
footprint TLA25JJA (BGA, 25-Leads, Body 2.69x2.69mm, Pitch 0.5mm)
pins: A1 LLS- (out), A2 LLS+ (out), A3 SDA (in), A4 HPGND (power), A5 HPR (out), B1 VDDLS (power), B2 ADR (in), B3 RIN- (in), B4 HPL (out), B5 VOC (out), C1 GNDLS (power), C2 VDD (power), C3 RIN+ (in), C4 LIN+ (in), C5 VDDHP (power), D1 VDDLS (power), D2 I2CVDD (power), D3 SCL (in), D4 MIN+ (in), D5 LIN- (in), E1 RLS- (out), E2 RLS+ (out), E3 GND (power), E4 MIN- (in), E5 BYPASS

## LM4950TA
designator U?
7.5W Mono-BTL or 3.1W Stereo Audio Power Amplifier; PartNumber: LM4950TA; Manufacturer: National Semiconductor; CompType: Audio IC; PackageTopMarking: NSUZXYTTE#*L4950TA; PowerWise: N; Published: 4-Dec-2008; DatasheetVersion: Aug-2004; PackageVersion: revC, Jul-1999; PackageReference: TA09A; Publisher: Altium Limited; PackageDescription: TO-220, Molded, 9 Lead, Staggered; RoHS: Y; PinCount: 9; DigiKeyPartNumber: LM4950TA-ND; ComponentLink1Description: LM4950 Datasheet; ComponentLink1URL: http://www.national.com/ds/LM/LM4950.pdf; ComponentLink2Description: LM4950 Web Page; ComponentLink2URL: http://www.national.com/pf/LM/LM4950.html; ComponentLink3Description: TA09A Package Page; ComponentLink3URL: http://www.national.com/packaging/folders/ta09a.html
footprint TA09A (TO, Thru-Hole, Vertical, Heatsink Mounted; 9 Bent Staggered Leads; Pitch 0.97 mm)
pins: 1 VINA (in), 2 ~{SD} (in), 3 VOUTA (out), 4 GND (power), 5 GND(TAB) (power), 6 VDD (power), 7 VOUTB (out), 8 BYPASS, 9 VINB (in)

## LM4950TS
designator U?
7.5W Mono-BTL or 3.1W Stereo Audio Power Amplifier; PartNumber: LM4950TS; Manufacturer: National Semiconductor; CompType: Audio IC; PackageTopMarking: NSUZXYTTE#*L4950TS; PowerWise: N; Published: 4-Dec-2008; DatasheetVersion: Aug-2004; PackageVersion: revB, Dec-2004; PackageReference: TS9A; Publisher: Altium Limited; PackageDescription: TO-263, Molded, 9 Lead, Surface Mount; RoHS: O; PinCount: 9; DigiKeyPartNumber: LM4950TS-ND; ComponentLink1Description: LM4950 Datasheet; ComponentLink1URL: http://www.national.com/ds/LM/LM4950.pdf; ComponentLink2Description: LM4950 Web Page; ComponentLink2URL: http://www.national.com/pf/LM/LM4950.html; ComponentLink3Description: TS9A Package Page; ComponentLink3URL: http://www.national.com/packaging/folders/ts9a.html
footprint TS9A_N (D2-PAK, 10-Leads, Body 8.7x10.2mm, Pitch 0.97mm, Lead Span 14.1mm, IPC Medium Density)
footprint TS9A_L (D2-PAK, 10-Leads, Body 8.7x10.2mm, Pitch 0.97mm, Lead Span 14.1mm, IPC High Density)
footprint TS9A_M (D2-PAK, 10-Leads, Body 8.7x10.2mm, Pitch 0.97mm, Lead Span 14.1mm, IPC Low Density)
pins: 1 VINA (in), 2 ~{SD} (in), 3 VOUTA (out), 4 GND (power), 5 GND(TAB) (power), 6 VDD (power), 7 VOUTB (out), 8 BYPASS, 9 VINB (in)

## LM4951ASD
designator U?
Wide Voltage Range 1.8 Watt Audio Power Amplifier With Short Circuit Protection; PartNumber: LM4951ASD; Manufacturer: National Semiconductor; CompType: Audio IC; PackageTopMarking: NS*UZXYTT*4951ASD; PowerWise: N; Published: 4-Dec-2008; DatasheetVersion: Sep-2008; PackageVersion: revA, May-2003; PackageReference: SDC10A; Publisher: Altium Limited; PackageDescription: LLP, Plastic, Dual, 4 x 4 x 0.8mm Body, 10 Lead, 0.8mm Pitch, No Pullback; RoHS: Y; PinCount: 10; ComponentLink1Description: LM4951A Datasheet; ComponentLink1URL: http://www.national.com/ds/LM/LM4951A.pdf; ComponentLink2Description: LM4951A Web Page; ComponentLink2URL: http://www.national.com/pf/LM/LM4951A.html; ComponentLink3Description: SDC10A Package Page; ComponentLink3URL: http://www.national.com/packaging/folders/sdc10a.html
footprint SDC10A (SON, 10-Leads, Body 4x4 mm, Pitch 0.8mm, NSC Recommended)
pins: 1 BYPASS (out), 2 ~{SD} (in), 3 CCHG (out), 4 NC, 5 VIN (in), 6 VO- (out), 7 GND (power), 8 NC, 9 VDD (power), 10 VO+ (out), 11 DAP

## LM4951SD
designator U?
Wide Voltage Range 1.8 Watt Audio Power Amplifier; PartNumber: LM4951SD; Manufacturer: National Semiconductor; CompType: Audio IC; PackageTopMarking: NS*UZXYTT*L4951SD; PowerWise: N; Published: 4-Dec-2008; DatasheetVersion: May-2007; PackageVersion: revA, May-2003; PackageReference: SDC10A; Publisher: Altium Limited; PackageDescription: LLP, Plastic, Dual, 4 x 4 x 0.8mm Body, 10 Lead, 0.8mm Pitch, No Pullback; RoHS: Y; PinCount: 10; DigiKeyPartNumber: LM4951SDCT-ND; ComponentLink1Description: LM4951 Datasheet; ComponentLink1URL: http://www.national.com/ds/LM/LM4951.pdf; ComponentLink2Description: LM4951 Web Page; ComponentLink2URL: http://www.national.com/pf/LM/LM4951.html; ComponentLink3Description: SDC10A Package Page; ComponentLink3URL: http://www.national.com/packaging/folders/sdc10a.html
footprint SDC10A (SON, 10-Leads, Body 4x4 mm, Pitch 0.8mm, NSC Recommended)
pins: 1 BYPASS, 2 ~{SD} (in), 3 CCHG, 4 NC, 5 VIN (in), 6 VO- (out), 7 GND (power), 8 NC, 9 VDD (power), 10 VO+ (out), 11 DAP (power)

## LM4951TL
designator U?
Wide Voltage Range 1.8 Watt Audio Power Amplifier; PartNumber: LM4951TL; Manufacturer: National Semiconductor; CompType: Audio IC; PackageTopMarking: XVG*I F8; PowerWise: N; Published: 4-Dec-2008; DatasheetVersion: May-2007; PackageVersion: revC, Jan-2004; PackageReference: TLA09ZZA; Publisher: Altium Limited; PackageDescription: Thin Micro SMD, 9 Bump (Large), 0.5mm Pitch; RoHS: Y; PinCount: 9; DigiKeyPartNumber: LM4951TL-ND; Code_JEDEC: MO-211-DD; ComponentLink1Description: LM4951 Datasheet; ComponentLink1URL: http://www.national.com/ds/LM/LM4951.pdf; ComponentLink2Description: LM4951 Web Page; ComponentLink2URL: http://www.national.com/pf/LM/LM4951.html; ComponentLink3Description: TLA09ZZA Package Page; ComponentLink3URL: http://www.national.com/packaging/folders/tla09zza.html
footprint TLA09ZZA (Micro SMD, 9-Leads, Body 1.47x1.47mm, Pitch 0.5mm, NSC Recommended)
pins: A1 VIN (in), A2 VO- (out), A3 CCHG, B1 GND (power), B2 GND (power), B3 VDD (power), C1 BYPASS, C2 VO+ (out), C3 ~{SD} (in)

## LM4952TS
designator U?
3.1W Stereo-SE Audio Power Amplifier with DC Volume Control; PartNumber: LM4952TS; Manufacturer: National Semiconductor; CompType: Audio IC; PackageTopMarking: NSUZXYTTE#*LM4952TS; PowerWise: N; Published: 4-Dec-2008; DatasheetVersion: Aug-2004; PackageVersion: revB, Dec-2004; PackageReference: TS9A; Publisher: Altium Limited; PackageDescription: TO-263, Molded, 9 Lead, Surface Mount; RoHS: Y; PinCount: 9; DigiKeyPartNumber: LM4952TS-ND; ComponentLink1Description: LM4952 Datasheet; ComponentLink1URL: http://www.national.com/ds/LM/LM4952.pdf; ComponentLink2Description: LM4952 Web Page; ComponentLink2URL: http://www.national.com/pf/LM/LM4952.html; ComponentLink3Description: TS9A Package Page; ComponentLink3URL: http://www.national.com/packaging/folders/ts9a.html
footprint TS9A_N (D2-PAK, 10-Leads, Body 8.7x10.2mm, Pitch 0.97mm, Lead Span 14.1mm, IPC Medium Density)
footprint TS9A_L (D2-PAK, 10-Leads, Body 8.7x10.2mm, Pitch 0.97mm, Lead Span 14.1mm, IPC High Density)
footprint TS9A_M (D2-PAK, 10-Leads, Body 8.7x10.2mm, Pitch 0.97mm, Lead Span 14.1mm, IPC Low Density)
pins: 1 DC VOL (in), 2 -VINA (in), 3 ~{SD} (in), 4 VOUTA (out), 5 GND (power), 6 VDD (power), 7 VOUTB (out), 8 -VINB (in), 9 BYPASS, 10 DAP (power)

## LM4953SD
designator U?
LM4953 Ground-Referenced, Ultra Low Noise, Ceramic Speaker Driver; PartNumber: LM4953SD; Manufacturer: National Semiconductor; CompType: Audio IC; PackageTopMarking: ZXYTT*L4953; PowerWise: N; Published: 4-Dec-2008; DatasheetVersion: Feb-2006; PackageVersion: revA, Jun-2003; PackageReference: SDA14A; Publisher: Altium Limited; PackageDescription: LLP, Plastic, Dual, 4 x 3 x 0.8mm Body, 14 Lead, 0.5mm Pitch, No Pullback; RoHS: Y; PinCount: 14; DigiKeyPartNumber: LM4953SD-ND; ComponentLink1Description: LM4953 Datasheet; ComponentLink1URL: http://www.national.com/ds/LM/LM4953.pdf; ComponentLink2Description: LM4953 Web Page; ComponentLink2URL: http://www.national.com/pf/LM/LM4953.html; ComponentLink3Description: SDA14A Package Page; ComponentLink3URL: http://www.national.com/packaging/folders/sda14a.html
footprint SDA14A (SON, 14-Leads, Body 4x3mm, Pitch 0.5mm, NSC Recommended)
pins: 1 SD (in), 2 CPVDD (power), 3 CCP+, 4 PGND (power), 5 CCP-, 6 VCP_OUT (out), 7 NC, 8 AVSS (power), 9 OUT B (out), 10 AVDD (power), 11 OUT A (out), 12 NC, 13 VIN (in), 14 SGND (power), 15 DAP (power)

## LM4954TL
designator U?
High Voltage 3 Watt Audio Power Amplifier; PartNumber: LM4954TL; Manufacturer: National Semiconductor; CompType: Audio IC; PackageTopMarking: XVG*I F2; PowerWise: N; Published: 4-Dec-2008; DatasheetVersion: Jun-2005; PackageVersion: revC, Jan-2004; PackageReference: TLA0911A; Publisher: Altium Limited; PackageDescription: Thin Micro SMD, 9 Bump (Large), 0.5mm Pitch; RoHS: Y; PinCount: 9; DigiKeyPartNumber: LM4954TLCT-ND; Code_JEDEC: MO-211-DD; ComponentLink1Description: LM4954 Datasheet; ComponentLink1URL: http://www.national.com/ds/LM/LM4954.pdf; ComponentLink2Description: LM4954 Web Page; ComponentLink2URL: http://www.national.com/pf/LM/LM4954.html; ComponentLink3Description: TLA0911A Package Page; ComponentLink3URL: http://www.national.com/packaging/folders/tla0911a.html
footprint TLA0911A (Micro SMD, 9-Leads, Body 1.49x1.49mm, Pitch 0.5mm, NSC Recommended)
pins: A1 -IN (in), A2 VO1 (out), A3 +IN (in), B1 GND (power), B2 GND (power), B3 VDD (power), C1 BYPASS, C2 VO2 (out), C3 ~{SD} (in)

## LM4960SQ
designator U?
Piezoelectric Speaker Driver; PartNumber: LM4960SQ; Manufacturer: National Semiconductor; CompType: Audio IC; PackageTopMarking: NS*UZXYTT*L4960SQ; PowerWise: N; Published: 4-Dec-2008; DatasheetVersion: Apr-2005; PackageVersion: revB, Aug-2003; PackageReference: SQA28A; Publisher: Altium Limited; PackageDescription: LLP, Plastic, Quad, 5 x 5 x 0.8mm Body, 28 Lead, 0.5mm Pitch, No Pullback; RoHS: Y; PinCount: 28; DigiKeyPartNumber: LM4960SQCT-ND; Code_JEDEC: MO-220-WHHD-3; ComponentLink1Description: LM4960 Datasheet; ComponentLink1URL: http://www.national.com/ds/LM/LM4960.pdf; ComponentLink2Description: LM4960 Web Page; ComponentLink2URL: http://www.national.com/pf/LM/LM4960.html; ComponentLink3Description: SQA28A Package Page; ComponentLink3URL: http://www.national.com/packaging/folders/sqa28a.html
footprint SQA28A (QFN, 28-Leads, Body 5x5mm, Pitch 0.5mm, NSC Recommended)
pins: 1 BYPASS, 2 VIN B (in), 3 NC, 4 VDD (power), 5 NC, 6 REG SD (in), 7 GND (power), 8 FB, 9 NC, 10 NC, 11 SW, 12 GND (power), 13 NC, 14 NC, 15 NC, 16 NC, 17 NC, 18 NC, 19 NC, 20 VIN A (in), 21 AMP SD (in), 22 NC, 23 VOUT A (out), 24 GND (power), 25 GND (power), 26 NC, 27 VAMP (power), 28 VOUT B (out), 29 DAP (power)

## LM4961LQ
designator U?
Ceramic Speaker Driver; PartNumber: LM4961LQ; Manufacturer: National Semiconductor; CompType: Audio IC; PackageTopMarking: NS*UZXYTT*L4961LQ; PowerWise: N; Published: 4-Dec-2008; DatasheetVersion: Dec-2006; PackageVersion: revB, Jul-2001; PackageReference: LQA28A; Publisher: Altium Limited; PackageDescription: LLP, Plastic, Quad, 5 x 5 x 0.75mm Body, 28 Lead, 0.5mm Pitch; RoHS: Y; PinCount: 28; DigiKeyPartNumber: LM4961LQCT-ND; Code_JEDEC: MO-220-WHHD-1; ComponentLink1Description: LM4961 Datasheet; ComponentLink1URL: http://www.national.com/ds/LM/LM4961.pdf; ComponentLink2Description: LM4961 Web Page; ComponentLink2URL: http://www.national.com/pf/LM/LM4961.html; ComponentLink3Description: LQA28A Package Page; ComponentLink3URL: http://www.national.com/packaging/folders/lqa28a.html
footprint LQA28A (PQFN, 28-Leads, Body 5x5mm, Pitch 0.5mm, NSC Recommended)
pins: 1 SW-OUT (out), 2 BYPASS, 3 SD 2 (in), 4 VDD (power), 5 NC, 6 SD 1 (in), 7 GND (power), 8 FB, 9 NC, 10 NC, 11 SW, 12 GND (power), 13 NC, 14 NC, 15 NC, 16 NC, 17 CCHG, 18 VIN (in), 19 BAND-SW (in), 20 BW1, 21 BW2, 22 NC, 23 VOUT- (out), 24 GND (power), 25 NC, 26 VAMP (power), 27 VOUT+ (out), 28 GND (power), 29 DAP (power)

## LM4962TL
designator U?
Ceramic Speaker Driver; PartNumber: LM4962TL; Manufacturer: National Semiconductor; CompType: Audio IC; PackageTopMarking: XYTT*I GF7; PowerWise: N; Published: 4-Dec-2008; DatasheetVersion: Mar-2006; PackageVersion: revC, Jan-2004; PackageReference: TLA2011A; Publisher: Altium Limited; PackageDescription: Thin Micro SMD, 20 Bump (Large), 0.5mm Pitch; RoHS: Y; PinCount: 20; DigiKeyPartNumber: LM4962TL-ND; Code_JEDEC: MO-211-DG; ComponentLink1Description: LM4962 Datasheet; ComponentLink1URL: http://www.national.com/ds/LM/LM4962.pdf; ComponentLink2Description: LM4962 Web Page; ComponentLink2URL: http://www.national.com/pf/LM/LM4962.html; ComponentLink3Description: TLA2011A Package Page; ComponentLink3URL: http://www.national.com/packaging/folders/tla2011a.html
footprint TLA2011A (Micro SMD, 20-Leads, Body 2.47x1.97mm, Pitch 0.5mm, NSC Recommended)
pins: A1 SD AMP (in), A2 SD BOOST (in), A3 GND(SW) (power), A4 SW, B1 SOFT-START, B2 FLAGOUT (out), B3 VDD (power), B4 BOOTSTRAP (power), C1 BYPASS, C2 CCHG, C3 VIN (in), C4 OC/OV DETECT (in), D1 GND (power), D2 BW2, D3 BW1, D4 FB, E1 VO1 (out), E2 VAMP (power), E3 VO2 (out), E4 SW-LEAK (in)

## LM4970SD
designator U?
Audio Synchronized Color LED Driver; PartNumber: LM4970SD; Manufacturer: National Semiconductor; CompType: Audio IC; PackageTopMarking: ZXYTT*L4970; PowerWise: Y; Published: 4-Dec-2008; DatasheetVersion: Apr-2008; PackageVersion: revA, Jun-2003; PackageReference: SDA14A; Publisher: Altium Limited; PackageDescription: LLP, Plastic, Dual, 4 x 3 x 0.8mm Body, 14 Lead, 0.5mm Pitch, No Pullback; RoHS: Y; PinCount: 14; DigiKeyPartNumber: LM4970SDCT-ND; ComponentLink1Description: LM4970 Datasheet; ComponentLink1URL: http://www.national.com/ds/LM/LM4970.pdf; ComponentLink2Description: LM4970 Web Page; ComponentLink2URL: http://www.national.com/pf/LM/LM4970.html; ComponentLink3Description: SDA14A Package Page; ComponentLink3URL: http://www.national.com/packaging/folders/sda14a.html
footprint SDA14A (SON, 14-Leads, Body 4x3mm, Pitch 0.5mm, NSC Recommended)
pins: 1 FILT, 2 VDD (power), 3 MIN (in), 4 GND (power), 5 LIN (in), 6 RIN (in), 7 I2CVDD (power), 8 SDA (io), 9 SCL (in), 10 ADR (in), 11 LED3 (out), 12 LGND (power), 13 LED2 (out), 14 LED1 (out), 15 DAP (power)

## LM4980SD
designator U?
2 Cell Battery, 1mA, 42mW Per Channel High Fidelity Stereo Headphone Audio Amplifier for MP3 players; PartNumber: LM4980SD; Manufacturer: National Semiconductor; CompType: Audio IC; PackageTopMarking: ZXYTT*L4980; PowerWise: Y; Published: 4-Dec-2008; DatasheetVersion: Jul-2005; PackageVersion: revA, Oct-2003; PackageReference: SDA10A; Publisher: Altium Limited; PackageDescription: LLP, Plastic, Dual, 3 x 3 x 0.8mm Body, 10 Lead, 0.5mm Pitch, No Pullback; RoHS: Y; PinCount: 10; DigiKeyPartNumber: LM4980SDCT-ND; ComponentLink1Description: LM4980 Datasheet; ComponentLink1URL: http://www.national.com/ds/LM/LM4980.pdf; ComponentLink2Description: LM4980 Web Page; ComponentLink2URL: http://www.national.com/pf/LM/LM4980.html; ComponentLink3Description: SDA10A Package Page; ComponentLink3URL: http://www.national.com/packaging/folders/sda10a.html
footprint SDA10A (SON, 10-Leads, Body 3x3 mm, Pitch 0.5mm, NSC Recommended)
pins: 1 INA (in), 2 ~{SD} (in), 3 NC, 4 VMID (in), 5 INB (in), 6 GND (power), 7 OUTB (out), 8 MID CAP, 9 OUTA (out), 10 VDD (power), 11 DAP (power)

## LM4982TL
designator U?
Ground-Referenced, Ultra Low Noise, 80mW Stereo Headphone Amplifier with IntelliSense and I2C Volume Control; PartNumber: LM4982TL; Manufacturer: National Semiconductor; CompType: Audio IC; PackageTopMarking: XYTT*I GG3; PowerWise: N; Published: 4-Dec-2008; DatasheetVersion: Jul-2006; PackageVersion: revC, Jan-2004; PackageReference: TLA1611A; Publisher: Altium Limited; PackageDescription: Thin Micro SMD, 16 Bump (Large), 0.5mm Pitch; RoHS: Y; PinCount: 16; DigiKeyPartNumber: LM4982TLCT-ND; Code_JEDEC: MO-211-DF; ComponentLink1Description: LM4982 Datasheet; ComponentLink1URL: http://www.national.com/ds/LM/LM4982.pdf; ComponentLink2Description: LM4982 Web Page; ComponentLink2URL: http://www.national.com/pf/LM/LM4982.html; ComponentLink3Description: TLA1611A Package Page; ComponentLink3URL: http://www.national.com/packaging/folders/tla1611a.html
footprint TLA1611A (Micro SMD, 16-Leads, Body 1.97x1.97mm, Pitch 0.5mm, NSC Recommended)
pins: A1 SGND (power), A2 HPS (in), A3 PVDD (power), A4 CCP+, B1 OUT_L (out), B2 IN_L (in), B3 I2CVDD (power), B4 PGND (power), C1 SVSS (power), C2 IN_R (in), C3 SCL (in), C4 CCP-, D1 OUT_R (out), D2 SVDD (power), D3 SDA (in), D4 CPOUT (out)

## LM4985TM
designator U?
LM4985 Stereo 135mW Low Noise Headphone Amplifier with Selectable Capacitive Coupled or OCL Output and Digitally Controlled (I2C) Volume Control; PartNumber: LM4985TM; Manufacturer: National Semiconductor; CompType: Audio IC; PackageTopMarking: XVG*I H2; PowerWise: N; Published: 4-Dec-2008; DatasheetVersion: May-2006; PackageVersion: revA, 2008; PackageReference: TMD12AAA; Publisher: Altium Limited; PackageDescription: Thin Micro SMD, 12 Bump, 0.4mm Pitch; RoHS: Y; PinCount: 12; DigiKeyPartNumber: LM4985TMCT-ND; ComponentLink1Description: LM4985 Datasheet; ComponentLink1URL: http://www.national.com/ds/LM/LM4985.pdf; ComponentLink2Description: LM4985 Web Page; ComponentLink2URL: http://www.national.com/pf/LM/LM4985.html; ComponentLink3Description: TMD12AAA Package Page; ComponentLink3URL: http://www.national.com/packaging/folders/tmd12aaa.html
footprint TMD12AAA (Micro SMD, 12-Leads, Body 1.62x1.22mm, Pitch 0.4mm, NSC Recommended)
pins: A1 ADR (in), A2 IN2 (in), A3 OUT2 (out), B1 SDA (in), B2 BYPASS, B3 CNTGND (power), C1 SCL (in), C2 GND (power), C3 VDD (power), D1 I2CVDD (power), D2 IN1 (in), D3 OUT1 (out)